# EAGLE library part MAX4602CPE (library PocketCube)
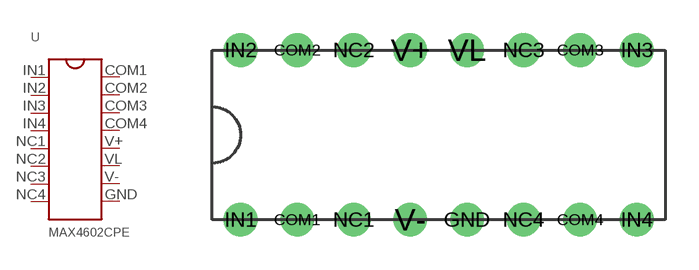
[diagram p11: symbol with the pads of MAX4602CPE; footprint MAX4602CPE]

Designator prefix -

## MAX4602CPE  [MAX4602CPE]
COM1  COM1
COM2  COM2
COM3  COM3
COM4  COM4
GND  GND
IN1  IN1
IN2  IN2
IN3  IN3
IN4  IN4
NC1  NO1
NC2  NO2
NC3  NO3
NC4  N04
V+  V+
V-  V-
VL  VL

## Footprint MAX4602CPE (pad centres in mm)
drill 1: COM1 2.54,0; COM2 2.54,7.62; COM3 15.24,7.62; COM4 15.24,0; GND 10.16,0; IN1 0,0; IN2 0,7.62; IN3 17.78,7.62; IN4 17.78,0; NC1 5.08,0; NC2 5.08,7.62; NC3 12.7,7.62; NC4 12.7,0; V+ 7.62,7.62; V- 7.62,0; VL 10.16,7.62